# EAGLE library part FSA2466 (library Soil Power Sensor)
DATA/AUDIO Low-Voltage Dual DPDT Analog Switch
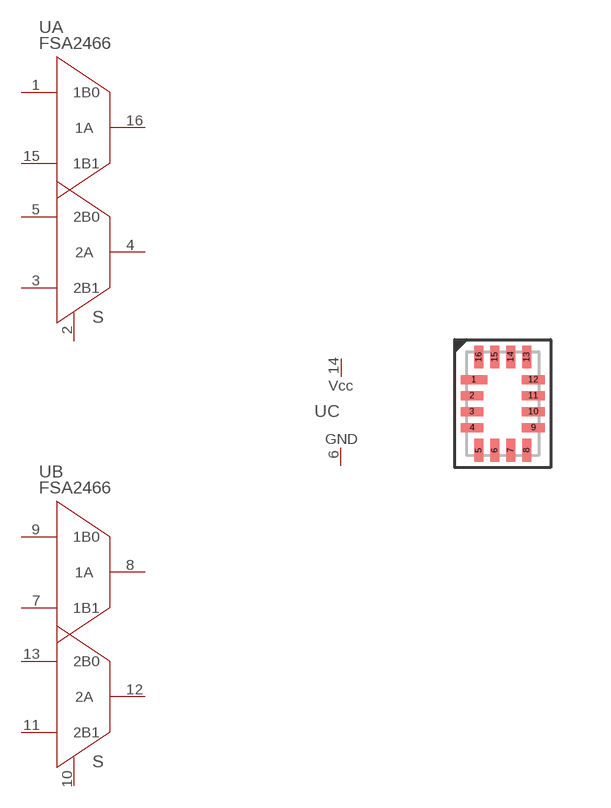
[diagram p6: symbol with the pads of UQFN40P180X260X50-16N; footprint UQFN40P180X260X50-16N]

Designator prefix U; gates A=MUX2:1X2 B=MUX2:1X2 C=VCCGND

## FSA2466 (AUTHOR: John Madden <jmadden173@pm.me>; DATE_CREATED: 2023-04-05; DATE_MODIFIED: 2023-04-05; MFC: onsemi; MPN: FSA2466UMX; QTY: 1; REF: https://www.onsemi.com/products/interfaces/analog-switches/fsa2466)  [UQFN40P180X260X50-16N]
1  A:1B0
2  A:S
3  A:2B1
4  A:2A
5  A:2B0
6  C:GND  pwr
7  B:1B1
8  B:1A
9  B:1B0
10  B:S
11  B:2B1
12  B:2A
13  B:2B0
14  C:VCC  pwr
15  A:1B1
16  A:1A

## Footprint UQFN40P180X260X50-16N (pad centres in mm)
smd 0.663 x 0.225: 1 -0.719,0.6
smd 0.563 x 0.225: 2 -0.768,0.2; 3 -0.768,-0.2; 4 -0.768,-0.6; 9 0.768,-0.6; 10 0.768,-0.2; 11 0.768,0.2; 12 0.768,0.6
smd 0.225 x 0.563: 5 -0.6,-1.169; 6 -0.2,-1.169; 7 0.2,-1.169; 8 0.6,-1.169; 13 0.6,1.169; 14 0.2,1.169; 15 -0.2,1.169; 16 -0.6,1.169